# Altium footprint library ADP_Passive.PcbLib: 47 footprints (part 3 of 3)
Each footprint in its own frame and in the unit in brackets; x right, y up, seen from the top. Pads: shape width x height; smd on the part's side, far side on the other; paste and mask are expansions set on the pad; w line width, h text height; cw(c..) or ccw(c..) is an arc to the next point about the centre after c.
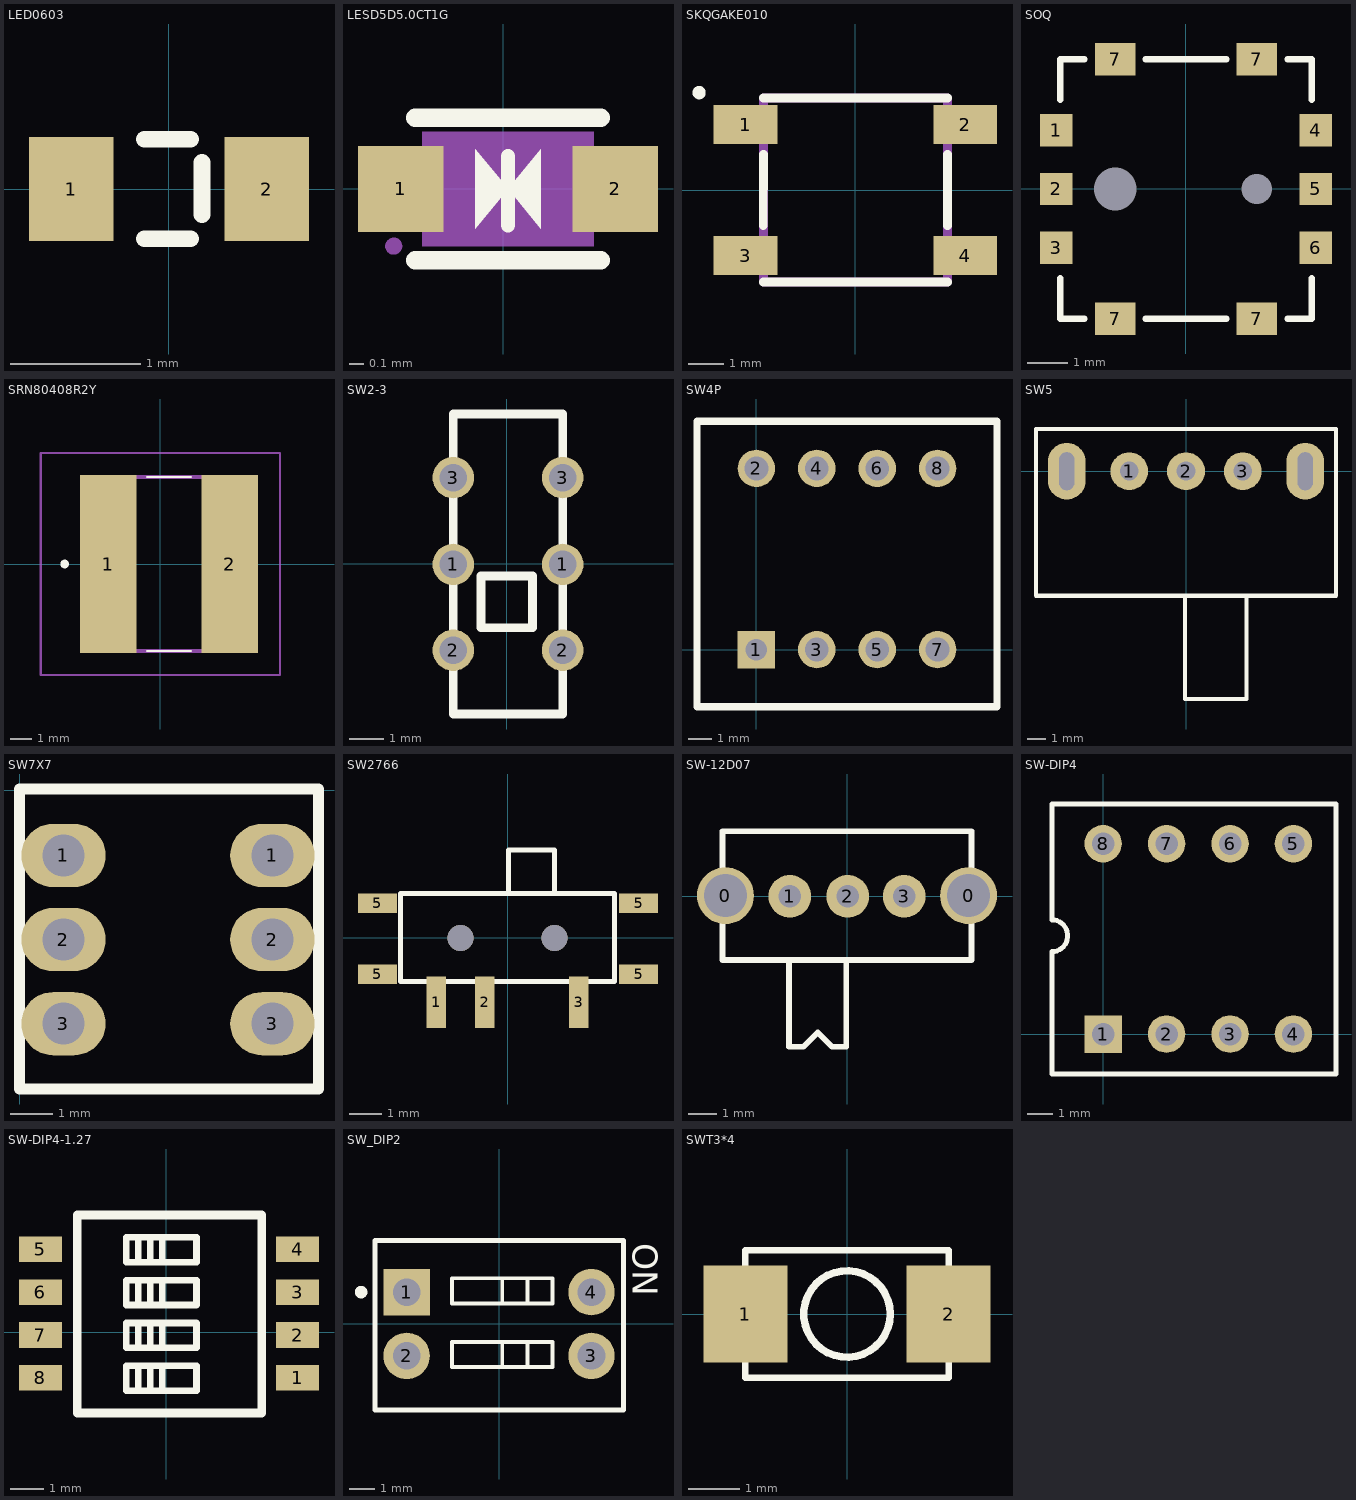
[diagram p2: the footprints below, top view; thin cyan lines are the x and y axes]

## LED0603 [mm]
pads (2):
  rect 0.65x0.8 smd: 1(-0.75,0) 2(0.75,0)
Top Overlay:
  lines w0.127: -0.19,-0.383 0.165,-0.383 ; -0.19,0.383 0.165,0.383 ; 0.253,-0.196 0.253,0.204
3D body "LED-0603.STEP": height 0.52, standoff -0.03, extent -0.851,-0.387 0.8,0.413

## LESD5D5.0CT1G [mm]
pads (2):
  rect 0.6x0.6 smd: 1(-0.716,0) 2(0.784,0)
Top Overlay:
  region: 0.034,0 0.263,0.279 0.263,-0.279
  region: 0.034,0 -0.195,-0.279 -0.195,0.279
  lines w0.1: 0.034,-0.254 0.034,0.229
  lines w0.13: -0.616,-0.5 0.684,-0.5 ; -0.616,0.5 0.684,0.5
Mechanical 4:
  region: -0.566,-0.4 -0.566,0.4 0.634,0.4 0.634,-0.4
Mechanical 5:
  region: 0.834,-0.152 0.497,-0.152 0.497,0.148 0.834,0.148
  region: -0.766,0.15 -0.429,0.15 -0.429,-0.15 -0.766,-0.15
Mechanical 6:
  circle w0.06: c-0.766,-0.4 r0.03
Mechanical 15:
  region: -0.195,0.279 -0.195,-0.279 0.034,0
  region: 0.263,0.279 0.263,-0.279 0.034,0

## SKQGAKE010 [mm]
height 1.3
pads (4):
  rect 1.8x1.1 smd: 1(-3.1,1.85) 2(3.1,1.85) 3(-3.1,-1.85) 4(3.1,-1.85)
Top Overlay:
  circle w0.254: c-4.411,2.749 r0.06
  lines w0.254: -2.6,-2.6 2.6,-2.6 ; -2.6,-1 -2.6,1 ; -2.6,2.6 2.6,2.6 ; 2.6,-1 2.6,1
Mechanical 13:
  lines w0.254: -2.6,-2.6 2.6,-2.6 2.6,2.6 -2.6,2.6 -2.6,-2.6
3D body "SKQGAB_ALPS.stp": height 1.5, standoff 0, extent -3.2,-2.6 3.2,2.6

## SOQ [mm]
height 0.127
pads (12):
  rect 0.8x0.8 smd: 1(-3.2,1.45) 2(-3.2,0) 3(-3.2,-1.45) 4(3.2,1.45) 5(3.2,0) 6(3.2,-1.45)
  rect 1x0.8 smd: 7(-1.75,-3.2) 7(-1.75,3.2) 7(1.75,-3.2) 7(1.75,3.2)
  round 0 hole 1.05: ""(-1.75,0)
  round 0 hole 0.75: ""(1.75,0)
Top Overlay:
  lines w0.152: -3.1,-2.2 -3.1,-3.2 -2.5,-3.2 ; -3.1,2.2 -3.1,3.2 -2.5,3.2 ; -1,-3.2 1,-3.2 ; -1,3.2 1,3.2 ; 2.5,-3.2 3.1,-3.2 3.1,-2.2 ; 2.5,3.2 3.1,3.2 3.1,2.2
3D body "SOQ.STEP": height 5, standoff -0.5, extent -3.322,-3.2 3.322,3.2

## SRN80408R2Y [mm]
pads (2):
  rect 2.6x8.2 smd: 1(-2.4,0) 2(3.2,0)
Top Overlay:
  lines w0.1: -0.6,-4 1.4,-4 ; -0.6,4 1.4,4
  lines w0.2: -4.4,-0.1 cw(c-4.4,0) -4.4,0.1 cw(c-4.4,0) -4.4,-0.1
Mechanical 15:
  lines w0.1: -5.5,-5.1 -5.5,5.1 5.5,5.1 5.5,-5.1 -5.5,-5.1
  lines w0.2: -3.6,-4 -3.6,4 4.4,4 4.4,-4 -3.6,-4

## SW2-3 [mm]
pads (6):
  round 1.2 hole 0.8: 1(-1.549,-0.025) 1(1.626,-0.025) 2(-1.549,-2.515) 2(1.626,-2.515) 3(-1.549,2.489) 3(1.626,2.489)
Top Overlay:
  lines w0.254: -1.549,-4.363 -1.549,4.337 1.626,4.337 1.626,-4.363 -1.549,-4.363 ; -0.748,-1.863 -0.748,-0.363 0.752,-0.363 0.752,-1.863 -0.748,-1.863
3D body "CK_Slide (2).STEP": height 5.5, standoff -2.95, extent -1.749,-4.551 1.851,4.449

## SW4P [mil]
pads (8):
  rect 62x62 hole 35.43: 1(0,0)
  round 62 hole 39.37: 2(0,300) 3(100,0) 4(100,300) 5(200,0) 6(200,300) 7(300,0) 8(300,300)
Top Overlay:
  lines w12: -98.43,-94.49 -98.43,377.95 398.43,377.95 398.43,-94.49 -98.43,-94.49
3D body "SWDIP4.stp": height 409.45, standoff -118.11, extent -81.7,-133.46 379.72,362.6

## SW5 [mm]
pads (5):
  round 2 hole 1: 1(-3,0) 2(0,0) 3(3,0)
  oval 2x3 hole 0.8 slot 2 at 90 deg: ""(-6.3,0) ""(6.3,0)
Top Overlay:
  lines w0.203: -0.051,-6.579 -0.051,-12.04 3.2,-12.04 3.2,-6.579
  lines w0.22: -7.925,-6.579 7.925,-6.579 7.925,2.235 -7.925,2.235 -7.925,-6.579
3D body "bodongkuaiguan.STEP": height 6.25, standoff -2.85, extent -6.489,-12.266 6.511,0.634

## SW7X7 [mm]
pads (6):
  oval 2x1.5 hole 1: 1(1.041,-1.549) 1(5.994,-1.549) 2(1.041,-3.543) 2(5.994,-3.543) 3(1.041,-5.537) 3(5.994,-5.537)
Top Overlay:
  lines w0.254: 0,-7.087 0,0.025 7.087,0.025 7.087,-7.087 0,-7.087
3D body "button with fixation.step": height 13, standoff -4, extent -0.02,-7.087 6.98,-0.087

## SW2766 [mm]
pads (7):
  rect 0.6x1.6 smd: 1(-2.2,-1.981) 2(-0.7,-1.981) 3(2.2,-1.981)
  rect 1.2x0.6 smd: 5(-4.013,-1.118) 5(-4.013,1.067) 5(4.039,-1.118) 5(4.039,1.067)
via -1.45,0 diameter 0.8 hole 0.8
via 1.45,0 diameter 0.8 hole 0.8
Top Overlay:
  lines w0.152: 0.025,1.422 0.025,2.718 1.448,2.718 1.448,1.422 ; -3.302,-1.346 3.302,-1.346 3.302,1.372 -3.302,1.372 -3.302,-1.346
3D body "MiniSwitch.step": height 1.4, standoff -0.5, extent -3.85,-2.255 3.85,2.545

## SW-12D07 [mm] "SK12D07"
pads (5):
  round 2 hole 1.5: 0(-4.267,0.025) 0(4.267,0.025)
  round 1.5 hole 0.8: 1(-2.007,0) 2(0.025,0) 3(2.007,0)
Top Overlay:
  lines w0.203: -4.369,-2.235 4.369,-2.235 4.369,2.286 -4.369,2.286 -4.369,-2.235 ; -2.032,-5.283 -2.032,-5.182 -2.032,-2.235 -0.025,-2.235 -0.025,-5.283 -0.527,-5.283 -1.029,-4.782 -1.53,-5.283 -2.032,-5.283
3D body "User Library-CK_Slide.step": height 5, standoff -2.49, extent -4.318,-6.167 4.293,2.205

## SW-DIP4 [mm] "DIP; 16 Leads; Row Spacing 7.62 mm; Pitch 2.54 mm"
pads (8):
  rect 1.5x1.5 hole 0.9: 1(0,0)
  round 1.5 hole 0.9: 2(2.54,0) 3(5.08,0) 4(7.62,0) 5(7.62,7.62) 6(5.08,7.62) 7(2.54,7.62) 8(0,7.62)
Top Overlay:
  lines w0.2: -2.05,4.57 cw(c-2.05,3.935) -2.05,3.3 -2.05,-1.59 9.322,-1.59 9.322,9.2 -2.05,9.2 -2.05,4.6
3D body "User Library-DIPSW8.step": height 7.52, standoff -2.57, extent -1.93,-1.041 9.5,8.611

## SW-DIP4-1.27 [mil]
pads (8):
  rect 50x29.92 smd: 1(153,-53) 2(153,-3) 3(153,47) 4(153,97) 5(-147,97) 6(-147,47) 7(-147,-3) 8(-147,-53)
Top Overlay:
  lines w7.87: -33,-67 -33,-39 ; -33,-17 -33,11 ; -33,33 -33,61 ; -33,83 -33,111 ; -19,-68 -19,-42 ; -19,-18 -19,8 ; -19,32 -19,58 ; -19,82 -19,108 ; -5,-64 -5,-42 ; -5,-14 -5,8 ; -5,36 -5,58 ; -5,86 -5,108 ; -47,-68 35,-68 35,-39 -47,-39 -47,-68 ; -47,-18 35,-18 35,11 -47,11 -47,-18 ; -47,32 -47,61 35,61 35,32 -47,32 ; -47,82 35,82 35,111 -47,111 -47,82
  lines w10: -104,-94 111,-94 111,137 -104,137 -104,-94
3D body "User Library-Diptronics_DHN4.STEP": height 59.06, standoff 0, extent -135.67,-103.21 139,145.21

## SW_DIP2 [mm] "DIP Switch; 16 Leads"
height 5.06
pads (4):
  rect 1.85x1.85 hole 1.1: 1(-3.683,1.27)
  round 1.85 hole 1.1: 2(-3.683,-1.27) 3(3.683,-1.27) 4(3.683,1.27)
Top Overlay:
  circle w0.25: c-5.496,1.271 r0.125
  lines w0.152: 0.127,-1.719 0.127,-0.719 ; 0.127,0.821 0.127,1.821 ; 1.127,-1.719 1.127,-0.719 ; 1.127,0.821 1.127,1.821 ; -1.873,-1.719 2.127,-1.719 2.127,-0.719 -1.873,-0.719 -1.873,-1.719 ; -1.873,0.821 2.127,0.821 2.127,1.821 -1.873,1.821 -1.873,0.821
  lines w0.2: -4.94,-3.429 -4.94,3.327 4.953,3.327 4.953,-3.429 -4.94,-3.429
  text "ON" at 5.334,3.226 h1
3D body "19619.stp": height 10.3, standoff 0, extent -5.001,-3.396 4.899,3.244

## SWT3*4 [mm]
pads (2):
  rect 1.65x1.9 smd: 1(-2,0) 2(2,0)
Top Overlay:
  circle w0.15: c0,0 r0.85
  lines w0.127: -2,-1.25 2,-1.25 2,1.25 -2,1.25 -2,-1.25
3D body "KEY-SMD3x4.STEP": height 2, standoff 0, extent -2.45,-1.452 2.45,1.448